# Altium schematic symbol library HK_SCHLIB.SchLib: 347 symbols (part 1 of 8)
Pins are listed as number, name and electrical type; pins without a type are passive.

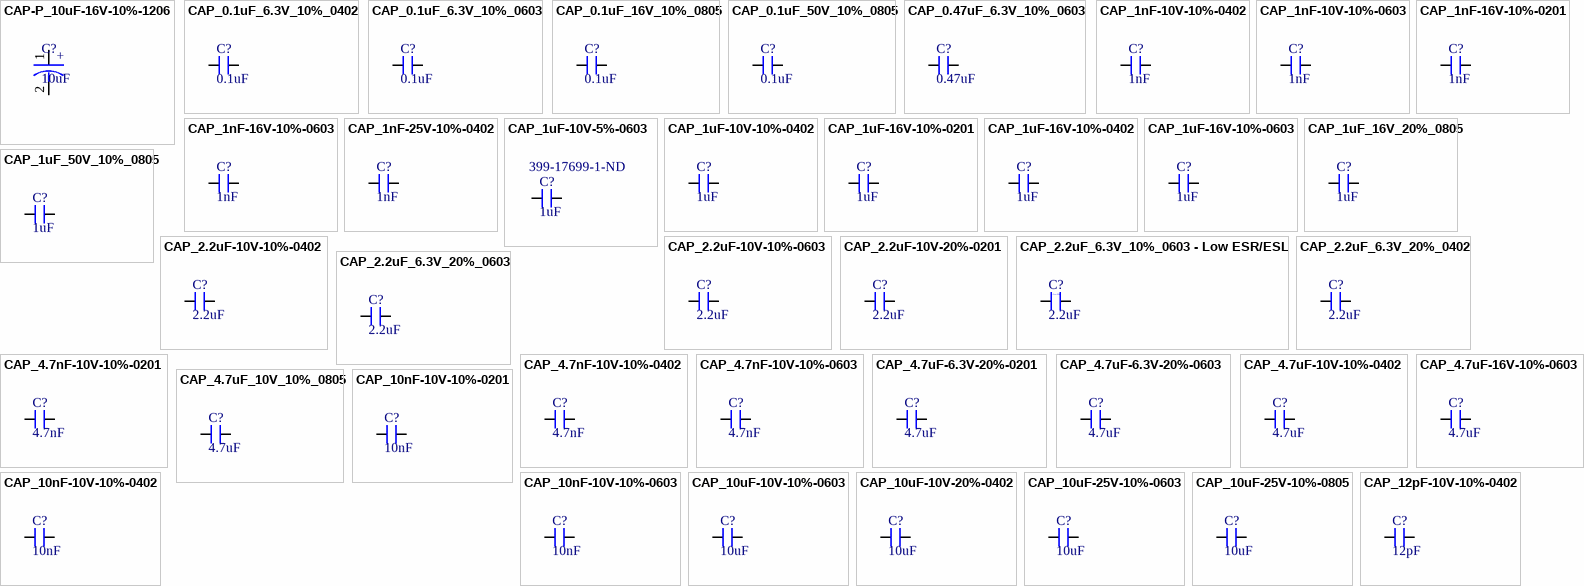
[diagram p0: symbols CAP-P_10uF-16V-10%-1206 to CAP_12pF-10V-10%-0402]

## CAP-P_10uF-16V-10%-1206
designator C?, comment 10uF
Cap Tant Solid 10uF 16V A CASE 10% (3.2 X 1.6 X 1.6mm) SMD 3216-18 3 Ohm 125°C T/R; Manufacturer: AVX Corporation; Manufacturer Part Number: TAJA106K016SNJ; Alternate Part Number-1: CA45-A016K106T; Manufacturer 1: Kyocera AVX; Case/Package: 1206; Supplier-1: SIRICOM; Supplier Part Number-1: TAJA106K016SNJ; Category: Capacitor; Number of Pins: 2; Supplier 1: Digi-Key; Manufacturer Part Number 1: TAJA106K016SNJ; RoHS: Yes; Stock 1: 117743; Pricing 1: 1=0.35, 10=0.246, 50=0.1726, 100=0.1479, 500=0.1109, 1000=0.09365, 2500=0.08872 (USD); ComponentLink1URL: https://datasheet.ciiva.com/29500/taj-29500092.pdf?src-supplier=Digi-Key; ComponentLink1Description: https://datasheet.ciiva.com/29500/taj-29500092.pdf?src-supplier=Digi-Key; ComponentLink2URL: https://datasheet.ciiva.com/29500/taj-29500093.pdf?src-supplier=Digi-Key; ComponentLink2Description: https://datasheet.ciiva.com/29500/taj-29500093.pdf?src-supplier=Digi-Key; ComponentLink3URL: https://datasheet.ciiva.com/29500/taj-29500094.pdf?src-supplier=Digi-Key; ComponentLink3Description: https://datasheet.ciiva.com/29500/taj-29500094.pdf?src-supplier=Digi-Key; ComponentLink4URL: https://datasheet.ciiva.com/12907/taj-27497-12907453.pdf?src-supplier=Mouser; ComponentLink4Description: https://datasheet.ciiva.com/12907/taj-27497-12907453.pdf?src-supplier=Mouser
footprint CAP-T_1206 (Footprint not found)
pins: 1, 2
text: +

## CAP_0.1uF_6.3V_10%_0402
designator C?, comment 0.1uF
Multilayer Ceramic Capacitor, 0.1 uF, 6.3 V, ± 10%, X5R, 0402 [1005 Metric]; Manufacturer 1: KEMET; Manufacturer Part Number 1: C0402C104K9PACTU; Capacitance: 100nF; Voltage Rating (DC): 6.3V; Dissipation Factor: 5%; ComponentLink1URL: http://www.jameco.com/Jameco/Products/ProdDS/1564300.pdf?src-supplier=Jameco; ComponentLink1Description: http://www.jameco.com/Jameco/Products/ProdDS/1564300.pdf?src-supplier=Jameco; ComponentLink2URL: http://components.arrow.com/part/dataview/20550741S6158455N7429?src-supplier=Arrow+Electronics; ComponentLink2Description: http://components.arrow.com/part/dataview/20550741S6158455N7429?src-supplier=Arrow+Electronics; ComponentLink3URL: http://www.farnell.com/datasheets/2740633.pdf?src-supplier=Farnell; ComponentLink3Description: http://www.farnell.com/datasheets/2740633.pdf?src-supplier=Farnell; ComponentLink4URL: http://uk.rs-online.com/webdocs/1443/0900766b81443d87.pdf?src-supplier=Rs; ComponentLink4Description: http://uk.rs-online.com/webdocs/1443/0900766b81443d87.pdf?src-supplier=Rs; ComponentLink5URL: http://uk.rs-online.com/webdocs/1443/0900766b81443d88.pdf?src-supplier=Rs; ComponentLink5Description: http://uk.rs-online.com/webdocs/1443/0900766b81443d88.pdf?src-supplier=Rs; ComponentLink6URL: http://datasheet.octopart.com/C0402C104K9PACTU-KEMET-datasheet-153476653.pdf?src-supplier=Avnet; ComponentLink6Description: http://datasheet.octopart.com/C0402C104K9PACTU-KEMET-datasheet-153476653.pdf?src-supplier=Avnet; ComponentLink7URL: http://capacitoredge.kemet.com/capedge2/DataSheet?pn=C0402C104K9PAC7867&src-supplier=Avnet; ComponentLink7Description: http://capacitoredge.kemet.com/capedge2/DataSheet?pn=C0402C104K9PAC7867&src-supplier=Avnet; ComponentLink8URL: http://datasheet.octopart.com/C0402C104K9PACTU-KEMET-datasheet-153476653.pdf?src-supplier=Rs; ComponentLink8Description: http://datasheet.octopart.com/C0402C104K9PACTU-KEMET-datasheet-153476653.pdf?src-supplier=Rs; ComponentLink9URL: http://datasheet.octopart.com/C0402C104K9PACTU-KEMET-datasheet-153476653.pdf?src-supplier=Mouser; ComponentLink9Description: http://datasheet.octopart.com/C0402C104K9PACTU-KEMET-datasheet-153476653.pdf?src-supplier=Mouser; ComponentLink10URL: http://datasheet.octopart.com/C0402C104K9PACTU-KEMET-datasheet-153476653.pdf?src-supplier=Allied+Electronics; ComponentLink10Description: http://datasheet.octopart.com/C0402C104K9PACTU-KEMET-datasheet-153476653.pdf?src-supplier=Allied+Electronics; ComponentLink11URL: https://datasheet.octopart.com/C0402C104K9PACTU-Kemet-datasheet-27203266.pdf?src-supplier=Newark; ComponentLink11Description: https://datasheet.octopart.com/C0402C104K9PACTU-Kemet-datasheet-27203266.pdf?src-supplier=Newark; ComponentLink12URL: http://www.farnell.com/datasheets/2740633.pdf?src-supplier=Newark; ComponentLink12Description: http://www.farnell.com/datasheets/2740633.pdf?src-supplier=Newark; ComponentLink13URL: http://datasheet.octopart.com/C0402C104K9PACTU-KEMET-datasheet-153476653.pdf?src-supplier=Digi-Key; ComponentLink13Description: http://datasheet.octopart.com/C0402C104K9PACTU-KEMET-datasheet-153476653.pdf?src-supplier=Digi-Key; ComponentLink14URL: http://datasheet.octopart.com/C0402C104K9PACTU-KEMET-datasheet-153476653.pdf?src-supplier=Onlinecomponents.com; ComponentLink14Description: http://datasheet.octopart.com/C0402C104K9PACTU-KEMET-datasheet-153476653.pdf?src-supplier=Onlinecomponents.com; ComponentLink15URL: https://api.kemet.com/component-edge/download/datasheet/C0402C104K9PACTU.pdf?src-supplier=Digi-Key; ComponentLink15Description: https://api.kemet.com/component-edge/download/datasheet/C0402C104K9PACTU.pdf?src-supplier=Digi-Key; ComponentLink16URL: http://www.farnell.com/datasheets/1791935.pdf?src-supplier=Element14; ComponentLink16Description: http://www.farnell.com/datasheets/1791935.pdf?src-supplier=Element14; ComponentLink17URL: http://www.farnell.com/datasheets/2740633.pdf?src-supplier=Element14; ComponentLink17Description: http://www.farnell.com/datasheets/2740633.pdf?src-supplier=Element14; ComponentLink18URL: http://www.kemet.com/kemet/web/homepage/kechome.nsf/vapubfiles/KEM_C1006_X5R_SMD.pdf/$file/KEM_C1006_X5R_SMD.pdf?src-supplier=Element14; ComponentLink18Description: http://www.kemet.com/kemet/web/homepage/kechome.nsf/vapubfiles/KEM_C1006_X5R_SMD.pdf/$file/KEM_C1006_X5R_SMD.pdf?src-supplier=Element14; ComponentLink19URL: http://www.kemet.com/kemet/web/homepage/kechome.nsf/vapubfiles/KEM_C1006_X5R_SMD.pdf/$file/KEM_C1006_X5R_SMD.pdf?src-supplier=Farnell; ComponentLink19Description: http://www.kemet.com/kemet/web/homepage/kechome.nsf/vapubfiles/KEM_C1006_X5R_SMD.pdf/$file/KEM_C1006_X5R_SMD.pdf?src-supplier=Farnell; ComponentLink20URL: http://datasheet.octopart.com/C0402C104K9PACTU-KEMET-datasheet-153476653.pdf?src-supplier=Verical; ComponentLink20Description: http://datasheet.octopart.com/C0402C104K9PACTU-KEMET-datasheet-153476653.pdf?src-supplier=Verical; Supplier 1: Digi-Key; RoHS: Yes; Category: Ceramic Capacitors; Stock 1: 513561; Pricing 1: 1=0.1, 10=0.038, 50=0.0208, 100=0.0169, 500=0.0121, 1000=0.0095, 2500=0.00864, 5000=0.00795 (USD); Mount: Surface Mount,PCB; Case/Package: 0402; Dielectric Material: Ceramic; Case Code (Imperial): 0402; Case Code (Metric): 1005; Min Operating Temperature: -55°C; Max Operating Temperature: 85°C; Tolerance: 10%; Packaging: Tape and Reel; Dielectric: X5R; Package Quantity: 10000; Series: C0402C; Voltage Rating: 6.3V; Termination: SMD/SMT; Construction: Flat; Voltage: 6.3V; Length: 1mm; Width: 0.5mm; Height: 0.5mm; Depth: 0.5mm; Lead Pitch: 0.3mm; Radiation Hardening: No; Lead Free: Lead Free; Reach SVHC Compliant: No; RoHS Compliant: Yes; Supplier Part Number 1: 399-C0402C104K9PAC7867DKR-ND
footprint CAP_0402 (Chip Capacitor 0402, 2-Leads, Body, IPC Medium Density)
pins: 1, 2

## CAP_0.1uF_6.3V_10%_0603
designator C?, comment 0.1uF
Multilayer Ceramic Capacitor, 0.1 uF, 6.3 V, ± 10%, X7R, 0603 [1608 Metric]; Manufacturer: KEMET; Manufacturer Part Number: C0603C104K9RACTU; Capacitance: 100nF; Voltage Rating: 6.3V; Dissipation Factor: 5%; Supplier 1: Mouser; RoHS: Yes; Category: Ceramic Capacitors; Stock 1: 222945; Pricing 1: 1=0.1, 10=0.086, 50=0.086, 100=0.044, 1000=0.027, 10000=0.021 (USD); Mount: Surface Mount; Case/Package: 0603; Case Code (Imperial): 0603; Case Code (Metric): 1608; Dielectric Material: Ceramic; Min Operating Temperature: -55°C; Max Operating Temperature: 125°C; Tolerance: 10%; Dielectric: X7R; Package Quantity: 4000; Packaging: Tape and Reel; Voltage Rating (DC): 6.3V; Termination: SMD/SMT; Series: C; Construction: Flat; Length: 1.6mm; Width: 0.8mm; Height: 0.8mm; Thickness: 0.034inch; Depth: 0.8mm; Radiation Hardening: No; RoHS Compliant: Yes; ComponentLink1URL: https://datasheet.ciiva.com/13371/kem-c1002-x7r-smd-357932-13371879.pdf?src-supplier=Mouser; ComponentLink1Description: https://datasheet.ciiva.com/13371/kem-c1002-x7r-smd-357932-13371879.pdf?src-supplier=Mouser; Supplier 2: Digi-Key; Manufacturer 2: KEMET; Manufacturer Part Number 2: C0603C104K9RACTU; Stock 2: 54491; Pricing 2: 1=0.13, 10=0.096, 50=0.0544, 100=0.0451, 500=0.03162, 1000=0.02618 (USD); Supplier 3: Mouser; Manufacturer 3: KEMET; Manufacturer Part Number 3: C0603C104K9RACTU; Stock 3: 222663; Pricing 3: 1=0.13, 10=0.055, 50=0.055, 100=0.032, 1000=0.027, 10000=0.02 (USD); Supplier Part Number 3: 80-C0603C104K9R
footprint CAP_0603 (Chip Capacitor 0603, 2-Leads, Body 1.68x0.88mm, IPC Medium Density)
pins: 1, 2

## CAP_0.1uF_16V_10%_0805
designator C?, comment 0.1uF
Multilayer Ceramic Capacitor, 0.1 uF, 16 V, ± 10%, X7R, 0805 [2012 Metric]; Manufacturer: KEMET; Manufacturer Part Number: C0805C104K4RACTU; Capacitance: 100nF; Voltage Rating: 16V; Supplier 1: Mouser; RoHS: Yes; Category: Ceramic Capacitors; Stock 1: 90803; Pricing 1: 1=0.15, 10=0.078, 50=0.078, 100=0.044, 1000=0.03, 10000=0.023 (USD); Mount: Surface Mount,PCB; Case/Package: 0805; Number of Pins: 2; Case Code (Imperial): 0805; Case Code (Metric): 2012; Contact Plating: Tin,Matte; Dielectric Material: Ceramic; Min Operating Temperature: -55°C; Max Operating Temperature: 125°C; Packaging: Tape and Reel; Package Quantity: 4000; Tolerance: 10%; Voltage Rating (DC): 16V; Dielectric: X7R; Termination: SMD/SMT; Voltage: 16V; Series: SMD Comm X7R; Construction: Flat; Length: 2mm; Height: 0.9mm; Lead Pitch: 0.75mm; Depth: 1.25mm; Radiation Hardening: No; Reach SVHC Compliant: No; RoHS Compliant: Yes; ComponentLink1URL: https://datasheet.ciiva.com/46443/1851736-46443711.pdf?src-supplier=Element14; ComponentLink1Description: https://datasheet.ciiva.com/46443/1851736-46443711.pdf?src-supplier=Element14; ComponentLink2URL: https://datasheet.ciiva.com/46443/1851736-46443710.pdf?src-supplier=Element14; ComponentLink2Description: https://datasheet.ciiva.com/46443/1851736-46443710.pdf?src-supplier=Element14; Supplier 2: Digi-Key; Manufacturer 2: KEMET; Manufacturer Part Number 2: C0805C104K4RACTU; Stock 2: 179111; Pricing 2: 1=0.18, 10=0.13, 50=0.0736, 100=0.061, 500=0.04274, 1000=0.03539 (USD); Supplier 3: Mouser; Manufacturer 3: KEMET; Manufacturer Part Number 3: C0805C104K4RACTU; Stock 3: 60653; Pricing 3: 1=0.17, 10=0.078, 50=0.078, 100=0.045, 1000=0.032, 10000=0.023 (USD); Supplier Part Number 3: 80-C0805C104K4R
footprint CAP_0805 (Chip Capacitor, 2-Leads, Body 2.10x1.35mm, IPC Medium Density)
pins: 1, 2

## CAP_0.1uF_50V_10%_0805
designator C?, comment 0.1uF
SMD Comm X7R 0805 (2012Metric) Ceramic Capacitor 0.079Lx0.049W 2.00mmx1.25mm X7R ±10% 0.1muF; Manufacturer: KEMET; Manufacturer Part Number: C0805C104K5RAC7210; Capacitance: 100nF; Voltage Rating: 50V; Supplier 1: Mouser; RoHS: Yes; Category: Ceramic Capacitors; Stock 1: 173866; Pricing 1: 1=0.13, 10=0.055, 50=0.055, 100=0.032, 1000=0.024, 10000=0.024 (USD); Mount: Surface Mount; Case/Package: 0805; Case Code (Metric): 2012; Case Code (Imperial): 0805; Dielectric Material: Ceramic; Min Operating Temperature: -55°C; Max Operating Temperature: 125°C; Tolerance: 10%; Dielectric: X7R; Packaging: Tape and Reel; Package Quantity: 15000; Voltage Rating (DC): 50V; Termination: SMD/SMT; Series: C; Construction: Flat; Length: 2mm; Width: 0.049inch; Height: 0.9mm; Depth: 1.25mm; Lead Pitch: 0.75mm; Thickness: 0.035inch; Radiation Hardening: No; RoHS Compliant: Yes; ComponentLink1URL: http://www.farnell.com/datasheets/2750461.pdf?src-supplier=Farnell; ComponentLink1Description: http://www.farnell.com/datasheets/2750461.pdf?src-supplier=Farnell; ComponentLink2URL: http://www.mouser.com/ds/2/212/KEM_C1002_X7R_SMD-1102033.pdf?src-supplier=Mouser; ComponentLink2Description: http://www.mouser.com/ds/2/212/KEM_C1002_X7R_SMD-1102033.pdf?src-supplier=Mouser; ComponentLink3URL: http://components.arrow.com/part/dataview/1379060S8109168N7429?src-supplier=Arrow+Electronics; ComponentLink3Description: http://components.arrow.com/part/dataview/1379060S8109168N7429?src-supplier=Arrow+Electronics; ComponentLink4URL: http://capacitoredge.kemet.com/capedge2/DataSheet/Datasheet-C0805C104K5RAC7210.pdf?pn=C0805C104K5RAC7210&src-supplier=Avnet; ComponentLink4Description: http://capacitoredge.kemet.com/capedge2/DataSheet/Datasheet-C0805C104K5RAC7210.pdf?pn=C0805C104K5RAC7210&src-supplier=Avnet; ComponentLink5URL: http://www.farnell.com/datasheets/2750461.pdf?src-supplier=Newark; ComponentLink5Description: http://www.farnell.com/datasheets/2750461.pdf?src-supplier=Newark; ComponentLink6URL: http://www.farnell.com/datasheets/2750461.pdf?src-supplier=Element14; ComponentLink6Description: http://www.farnell.com/datasheets/2750461.pdf?src-supplier=Element14; ComponentLink7URL: https://api.kemet.com/component-edge/download/datasheet/C0805C104K5RAC7210.pdf?src-supplier=Digi-Key; ComponentLink7Description: https://api.kemet.com/component-edge/download/datasheet/C0805C104K5RAC7210.pdf?src-supplier=Digi-Key; ComponentLink8URL: https://www.verical.com/server-webapp/html/getDatasheet?partID=114317&src-supplier=Verical; ComponentLink8Description: https://www.verical.com/server-webapp/html/getDatasheet?partID=114317&src-supplier=Verical; ComponentLink9URL: http://www.kemet.com/kemet/web/homepage/kechome.nsf/weben/C4DA2DA1D1C9D3C3CA2570A50016092D/$file/KEM_C1002_X7R_SMD.pdf; ComponentLink9Description: http://www.kemet.com/kemet/web/homepage/kechome.nsf/weben/C4DA2DA1D1C9D3C3CA2570A50016092D/$file/KEM_C1002_X7R_SMD.pdf; ComponentLink10URL: https://datasheet.octopart.com/C0805C104K5RAC7210-KEMET-datasheet-130259742.pdf?src-supplier=TME; ComponentLink10Description: https://datasheet.octopart.com/C0805C104K5RAC7210-KEMET-datasheet-130259742.pdf?src-supplier=TME; ComponentLink11URL: https://datasheet.octopart.com/C0805C104K5RAC7210-KEMET-datasheet-37550250.pdf?src-supplier=Electro+Sonic; ComponentLink11Description: https://datasheet.octopart.com/C0805C104K5RAC7210-KEMET-datasheet-37550250.pdf?src-supplier=Electro+Sonic; Supplier 2: Digi-Key; Manufacturer 2: KEMET; Manufacturer Part Number 2: C0805C104K5RAC7210; Stock 2: 1684433; Pricing 2: 1=0.13, 10=0.092, 50=0.052, 100=0.0431, 500=0.03022, 1000=0.02502, 2500=0.02328, 5000=0.0213 (USD); Supplier 3: Mouser; Manufacturer 3: KEMET; Manufacturer Part Number 3: C0805C104K5RAC7210; Stock 3: 170881; Pricing 3: 1=0.13, 10=0.055, 50=0.055, 100=0.032, 1000=0.024, 10000=0.018 (USD); Supplier Part Number 3: 80-C0805C104K5R7210
footprint CAP_0805 (Chip Capacitor, 2-Leads, Body 2.10x1.35mm, IPC Medium Density)
pins: 1, 2

## CAP_0.47uF_6.3V_10%_0603
designator C?, comment 0.47uF
Multilayer Ceramic Capacitor, 0.47 uF, 6.3 V, ± 10%, X5R, 0603 [1608 Metric]; Manufacturer: KEMET; Manufacturer Part Number: C0603C474K9PACTU; Capacitance: 470nF; Voltage Rating: 6.3V; Dissipation Factor: 5%; Supplier 1: Mouser; RoHS: Yes; Category: Ceramic Capacitors; Stock 1: 21236; Pricing 1: 1=0.16, 10=0.094, 50=0.094, 100=0.055, 1000=0.034, 10000=0.022 (USD); Mount: Surface Mount; Case/Package: 0603; Case Code (Imperial): 0603; Case Code (Metric): 1608; Dielectric Material: Ceramic; Min Operating Temperature: -55°C; Max Operating Temperature: 85°C; Tolerance: 10%; Dielectric: X5R; Package Quantity: 1; Packaging: Tape and Reel; Voltage Rating (DC): 6.3V; Termination: SMD/SMT; Series: C; Construction: Flat; Length: 1.6mm; Width: 0.031inch; Height: 0.8mm; Lead Pitch: 0.7mm; Thickness: 0.034inch; Depth: 0.8mm; Lead Free: Lead Free; RoHS Compliant: Yes; ComponentLink1URL: http://www.farnell.com/datasheets/2748219.pdf?src-supplier=Farnell; ComponentLink1Description: http://www.farnell.com/datasheets/2748219.pdf?src-supplier=Farnell; ComponentLink2URL: http://www.mouser.com/ds/2/212/KEM_C1006_X5R_SMD-1103249.pdf?src-supplier=Mouser; ComponentLink2Description: http://www.mouser.com/ds/2/212/KEM_C1006_X5R_SMD-1103249.pdf?src-supplier=Mouser; ComponentLink3URL: http://components.arrow.com/part/dataview/40911673S6836922N7429?src-supplier=Arrow+Electronics; ComponentLink3Description: http://components.arrow.com/part/dataview/40911673S6836922N7429?src-supplier=Arrow+Electronics; ComponentLink4URL: http://www.farnell.com/datasheets/2748219.pdf?src-supplier=Newark; ComponentLink4Description: http://www.farnell.com/datasheets/2748219.pdf?src-supplier=Newark; ComponentLink5URL: https://datasheet.octopart.com/C0603C474K9PACTU-KEMET-datasheet-83561846.pdf?src-supplier=Newark; ComponentLink5Description: https://datasheet.octopart.com/C0603C474K9PACTU-KEMET-datasheet-83561846.pdf?src-supplier=Newark; ComponentLink6URL: https://api.kemet.com/component-edge/download/datasheet/C0603C474K9PACTU.pdf?src-supplier=Digi-Key; ComponentLink6Description: https://api.kemet.com/component-edge/download/datasheet/C0603C474K9PACTU.pdf?src-supplier=Digi-Key; ComponentLink7URL: https://datasheet.octopart.com/C0603C474K9PACTU-Kemet-datasheet-62307647.pdf?src-supplier=Element14; ComponentLink7Description: https://datasheet.octopart.com/C0603C474K9PACTU-Kemet-datasheet-62307647.pdf?src-supplier=Element14; ComponentLink8URL: https://datasheet.octopart.com/C0603C474K9PACTU-KEMET-datasheet-149522163.pdf?src-supplier=Farnell; ComponentLink8Description: https://datasheet.octopart.com/C0603C474K9PACTU-KEMET-datasheet-149522163.pdf?src-supplier=Farnell; ComponentLink9URL: https://datasheet.octopart.com/C0603C474K9PACTU-KEMET-datasheet-153476653.pdf?src-supplier=Electro+Sonic; ComponentLink9Description: https://datasheet.octopart.com/C0603C474K9PACTU-KEMET-datasheet-153476653.pdf?src-supplier=Electro+Sonic; Supplier 2: Mouser; Stock 2: 43893; Pricing 2: 1=0.15, 10=0.088, 50=0.088, 100=0.057, 1000=0.057, 10000=0.046 (USD); Radiation Hardening: No; Reach SVHC Compliant: No; ComponentLink10URL: http://components.arrow.com/part/dataview/42933002S8993962N7429?src-supplier=Arrow+Electronics; ComponentLink10Description: http://components.arrow.com/part/dataview/42933002S8993962N7429?src-supplier=Arrow+Electronics; ComponentLink11URL: http://www.farnell.com/datasheets/2746647.pdf?src-supplier=Farnell; ComponentLink11Description: http://www.farnell.com/datasheets/2746647.pdf?src-supplier=Farnell; ComponentLink12URL: http://datasheet.octopart.com/C0603C475M9PACTU-KEMET-datasheet-153476653.pdf?src-supplier=Avnet; ComponentLink12Description: http://datasheet.octopart.com/C0603C475M9PACTU-KEMET-datasheet-153476653.pdf?src-supplier=Avnet; ComponentLink13URL: http://datasheet.octopart.com/C0603C475M9PACTU-KEMET-datasheet-153476653.pdf?src-supplier=Onlinecomponents.com; ComponentLink13Description: http://datasheet.octopart.com/C0603C475M9PACTU-KEMET-datasheet-153476653.pdf?src-supplier=Onlinecomponents.com; ComponentLink14URL: https://datasheet.octopart.com/C0603C475M9PACTU-Kemet-datasheet-17019119.pdf?src-supplier=Newark; ComponentLink14Description: https://datasheet.octopart.com/C0603C475M9PACTU-Kemet-datasheet-17019119.pdf?src-supplier=Newark; ComponentLink15URL: http://datasheet.octopart.com/C0603C475M9PACTU-KEMET-datasheet-153476653.pdf?src-supplier=Digi-Key; ComponentLink15Description: http://datasheet.octopart.com/C0603C475M9PACTU-KEMET-datasheet-153476653.pdf?src-supplier=Digi-Key; ComponentLink16URL: https://api.kemet.com/component-edge/download/datasheet/C0603C475M9PACTU.pdf?src-supplier=Digi-Key; ComponentLink16Description: https://api.kemet.com/component-edge/download/datasheet/C0603C475M9PACTU.pdf?src-supplier=Digi-Key; ComponentLink17URL: http://www.farnell.com/datasheets/2746647.pdf?src-supplier=Newark; ComponentLink17Description: http://www.farnell.com/datasheets/2746647.pdf?src-supplier=Newark; ComponentLink18URL: https://datasheet.octopart.com/C0603C475M9PACTU-Kemet-datasheet-62307650.pdf?src-supplier=Element14; ComponentLink18Description: https://datasheet.octopart.com/C0603C475M9PACTU-Kemet-datasheet-62307650.pdf?src-supplier=Element14; ComponentLink19URL: https://datasheet.octopart.com/C0603C475M9PACTU-KEMET-datasheet-149522171.pdf?src-supplier=Farnell; ComponentLink19Description: https://datasheet.octopart.com/C0603C475M9PACTU-KEMET-datasheet-149522171.pdf?src-supplier=Farnell; ComponentLink20URL: http://www.farnell.com/datasheets/1791935.pdf?src-supplier=Newark; ComponentLink20Description: http://www.farnell.com/datasheets/1791935.pdf?src-supplier=Newark; ComponentLink21URL: http://datasheet.octopart.com/C0603C475M9PACTU-KEMET-datasheet-153476653.pdf?src-supplier=Quest; ComponentLink21Description: http://datasheet.octopart.com/C0603C475M9PACTU-KEMET-datasheet-153476653.pdf?src-supplier=Quest; ComponentLink22URL: https://datasheet.octopart.com/C0603C475M9PACTU-KEMET-datasheet-153476653.pdf?src-supplier=Electro+Sonic; ComponentLink22Description: https://datasheet.octopart.com/C0603C475M9PACTU-KEMET-datasheet-153476653.pdf?src-supplier=Electro+Sonic; Supplier 3: Mouser; Stock 3: 21236; Pricing 3: 1=0.16, 10=0.094, 50=0.094, 100=0.055, 1000=0.034, 10000=0.022 (USD); Supplier 4: Digi-Key; Manufacturer 4: KEMET; Manufacturer Part Number 4: C0603C474K9PACTU; Stock 4: 64517; Pricing 4: 1=0.13, 10=0.094, 50=0.0534, 100=0.0443, 500=0.03104, 1000=0.02569 (USD); Supplier 5: Mouser; Manufacturer 5: KEMET; Manufacturer Part Number 5: C0603C474K9PACTU; Stock 5: 21036; Pricing 5: 1=0.14, 10=0.057, 50=0.057, 100=0.033, 1000=0.027, 10000=0.021 (USD); Supplier Part Number 5: 80-C0603C474K9P
footprint CAP_0603 (Chip Capacitor 0603, 2-Leads, Body 1.68x0.88mm, IPC Medium Density)
pins: 1, 2

## CAP_1nF-10V-10%-0402
designator C?, comment 1nF
Multilayer Ceramic Capacitor, 1000 pF, 10 V, ± 10%, X7R, 0402 [1005 Metric]; Manufacturer: KEMET; Manufacturer Part Number: C0402C102K8RACTU; Voltage Rating: 10V; Dissipation Factor: 5%; Case/Package: 0402; Supplier-1: Digikey; Supplier 1: Digi-Key; Manufacturer 1: KEMET; Manufacturer Part Number 1: C0402C102K8RACTU; RoHS: Yes; Category: Ceramic Capacitors; Stock 1: 209937; Pricing 1: 1=0.1, 10=0.019, 50=0.0104, 100=0.0085, 500=0.00604, 1000=0.00475, 2500=0.00432, 5000=0.00397 (USD); Mount: Surface Mount; Case Code (Imperial): 0402; Case Code (Metric): 1005; Dielectric Material: Ceramic; Min Operating Temperature: -55°C; Max Operating Temperature: 125°C; Capacitance: 1nF; Tolerance: 10%; Packaging: Tape and Reel; Package Quantity: 1; Voltage Rating (DC): 10V; Dielectric: X7R; Termination: SMD/SMT; Series: C; Construction: Flat; Length: 1mm; Width: 0.02inch; Height: 0.5mm; Lead Pitch: 0.3mm; Thickness: 0.022inch; Depth: 0.5mm; Reach SVHC Compliant: No; RoHS Compliant: Yes; ComponentLink1URL: http://www.farnell.com/datasheets/2746032.pdf?src-supplier=Farnell; ComponentLink1Description: http://www.farnell.com/datasheets/2746032.pdf?src-supplier=Farnell; ComponentLink2URL: http://components.arrow.com/part/dataview/2084806S6036613N7429?src-supplier=Arrow+Electronics; ComponentLink2Description: http://components.arrow.com/part/dataview/2084806S6036613N7429?src-supplier=Arrow+Electronics; ComponentLink3URL: http://www.mouser.com/ds/2/212/KEM_C1002_X7R_SMD-1102033.pdf?src-supplier=Mouser; ComponentLink3Description: http://www.mouser.com/ds/2/212/KEM_C1002_X7R_SMD-1102033.pdf?src-supplier=Mouser; ComponentLink4URL: http://capacitoredge.kemet.com/capedge2/DataSheet?pn=C0402C102K8RAC7867&src-supplier=Avnet; ComponentLink4Description: http://capacitoredge.kemet.com/capedge2/DataSheet?pn=C0402C102K8RAC7867&src-supplier=Avnet; ComponentLink5URL: http://www.farnell.com/datasheets/2314914.pdf?src-supplier=Newark; ComponentLink5Description: http://www.farnell.com/datasheets/2314914.pdf?src-supplier=Newark; ComponentLink6URL: https://datasheet.octopart.com/C0402C102K8RACTU-KEMET-datasheet-74831184.pdf?src-supplier=Newark; ComponentLink6Description: https://datasheet.octopart.com/C0402C102K8RACTU-KEMET-datasheet-74831184.pdf?src-supplier=Newark; ComponentLink7URL: https://api.kemet.com/component-edge/download/datasheet/C0402C102K8RACTU.pdf?src-supplier=Digi-Key; ComponentLink7Description: https://api.kemet.com/component-edge/download/datasheet/C0402C102K8RACTU.pdf?src-supplier=Digi-Key; ComponentLink8URL: https://datasheet.octopart.com/C0402C102K8RACTU-Kemet-datasheet-65850000.pdf?src-supplier=Element14; ComponentLink8Description: https://datasheet.octopart.com/C0402C102K8RACTU-Kemet-datasheet-65850000.pdf?src-supplier=Element14; ComponentLink9URL: https://datasheet.octopart.com/C0402C102K8RACTU-KEMET-datasheet-149521594.pdf?src-supplier=Farnell; ComponentLink9Description: https://datasheet.octopart.com/C0402C102K8RACTU-KEMET-datasheet-149521594.pdf?src-supplier=Farnell; ComponentLink10URL: http://www.farnell.com/datasheets/2746032.pdf?src-supplier=Element14; ComponentLink10Description: http://www.farnell.com/datasheets/2746032.pdf?src-supplier=Element14; ComponentLink11URL: http://www.farnell.com/datasheets/2746032.pdf?src-supplier=Newark; ComponentLink11Description: http://www.farnell.com/datasheets/2746032.pdf?src-supplier=Newark; ComponentLink12URL: https://datasheet.octopart.com/C0402C102K8RACTU-KEMET-datasheet-138697071.pdf?src-supplier=TME; ComponentLink12Description: https://datasheet.octopart.com/C0402C102K8RACTU-KEMET-datasheet-138697071.pdf?src-supplier=TME; ComponentLink13URL: https://datasheet.octopart.com/C0402C102K8RACTU-KEMET-datasheet-157246124.pdf?src-supplier=Electro+Sonic; ComponentLink13Description: https://datasheet.octopart.com/C0402C102K8RACTU-KEMET-datasheet-157246124.pdf?src-supplier=Electro+Sonic
footprint CAP_0402 (Capacitor)
pins: 1, 2

## CAP_1nF-10V-10%-0603
designator C?, comment 1nF
Cap Ceramic 0.001uF 10V X7R 10% SMD 0603 125°C Paper T/R; Manufacturer: Yageo; Manufacturer Part Number: CC0603KRX7R6BB102; Case/Package: 0603; Supplier-1: Digikey; Supplier 1: Digi-Key; Manufacturer 1: Yageo; Manufacturer Part Number 1: CC0603KRX7R6BB102; RoHS: Yes; Category: Ceramic Capacitors; Stock 1: 20692; Pricing 1: 1=0.1, 10=0.048, 50=0.0262, 100=0.0214, 500=0.01528, 1000=0.012 (USD); Mount: Surface Mount; Case Code (Imperial): 0603; Case Code (Metric): 1608; Min Operating Temperature: -55°C; Max Operating Temperature: 125°C; Capacitance: 1nF; Tolerance: 10%; Termination: Wraparound; Voltage Rating (DC): 10V; Packaging: Tape and Reel; Dielectric: X7R; Voltage Rating: 10V; Series: CC; Construction: Flat; Length: 0.063inch; Width: 0.031inch; Height: 0.8mm; Thickness: 0.035inch; Lead Free: Lead Free; Halogen Free: Halogen Free; RoHS Compliant: Yes; ComponentLink1URL: https://datasheet.ciiva.com/13210/upy-gphc-x7r-6-3v-to-50v-8-12304-13210264.pdf?src-supplier=Mouser; ComponentLink1Description: https://datasheet.ciiva.com/13210/upy-gphc-x7r-6-3v-to-50v-8-12304-13210264.pdf?src-supplier=Mouser
footprint CAP_0603 (Capacitor)
pins: 1, 2

## CAP_1nF-16V-10%-0201
designator C?, comment 1nF
Multilayer Ceramic Capacitor, 1000 pF, 16 V, ± 10%, X7R, 0201 [0603 Metric]; Manufacturer: Murata Electronics; Manufacturer Part Number: GRM033R71C102KA01D; Manufacturer 1: Murata; Case/Package: 0201; Supplier-1: Digikey; Supplier 1: Digi-Key; Manufacturer Part Number 1: GRM033R71C102KA01D; RoHS: Yes; Category: Ceramic Capacitors; Stock 1: 1811602; Pricing 1: 1=0.1, 10=0.014, 50=0.0076, 100=0.0062, 500=0.00446, 1000=0.0035, 2500=0.00318, 5000=0.00293 (USD); ComponentLink1URL: https://datasheet.ciiva.com/18184/getdatasheetpartid-457849-18184082.pdf?src-supplier=Verical; ComponentLink1Description: https://datasheet.ciiva.com/18184/getdatasheetpartid-457849-18184082.pdf?src-supplier=Verical; ComponentLink2URL: https://datasheet.ciiva.com/5424/product-5424017.pdf?src-supplier=Mouser; ComponentLink2Description: https://datasheet.ciiva.com/5424/product-5424017.pdf?src-supplier=Mouser; ComponentLink3URL: https://datasheet.ciiva.com/6263/partnumbering-e-01-6263577.pdf?src-supplier=Digi-Key; ComponentLink3Description: https://datasheet.ciiva.com/6263/partnumbering-e-01-6263577.pdf?src-supplier=Digi-Key; ComponentLink4URL: https://datasheet.ciiva.com/6263/partnumbering-e-01-6263578.pdf?src-supplier=Digi-Key; ComponentLink4Description: https://datasheet.ciiva.com/6263/partnumbering-e-01-6263578.pdf?src-supplier=Digi-Key; ComponentLink5URL: https://datasheet.ciiva.com/6263/partnumbering-e-01-6263661.pdf?src-supplier=Digi-Key; ComponentLink5Description: https://datasheet.ciiva.com/6263/partnumbering-e-01-6263661.pdf?src-supplier=Digi-Key
footprint CAP_0201
pins: 1, 2

## CAP_1nF-16V-10%-0603
designator C?, comment 1nF
1000pF ±10% 16V Ceramic Capacitor X7R 0603 (1608 Metric) /; Manufacturer: KEMET; Manufacturer Part Number: C0603C102K4RECAUTO; Case/Package: 0603; Supplier-1: Digikey
footprint CAP_0603 (Capacitor)
pins: 1, 2

## CAP_1nF-25V-10%-0402
designator C?, comment 1nF
Multilayer Ceramic Capacitor, 0.001 uF, 25 V, ± 10%, X7R, 0402 [1005 Metric]; Manufacturer: Yageo; Manufacturer Part Number: CC0402KRX7R7BB102; Voltage Rating: 16V; Case/Package: 0402; Supplier-1: Digikey; Supplier 1: Mouser; Manufacturer 1: Yageo; Manufacturer Part Number 1: CC0402KRX7R7BB102; RoHS: Yes; Category: Ceramic Capacitors; Stock 1: 36889; Pricing 1: 1=0.1, 10=0.01, 50=0.01, 100=0.006, 1000=0.005, 10000=0.004 (USD); Mount: Surface Mount; Case Code (Imperial): 0402; Case Code (Metric): 1005; Min Operating Temperature: -55°C; Max Operating Temperature: 125°C; Capacitance: 1nF; Tolerance: 10%; Dielectric: X7R; Packaging: Tape and Reel; Voltage Rating (DC): 16V; Package Quantity: 1; Termination: SMD/SMT; Series: CC; Construction: Flat; Length: 1mm; Width: 0.02inch; Height: 0.5mm; Thickness: 0.022inch; Depth: 0.5mm; Radiation Hardening: No; Reach SVHC Compliant: No; Lead Free: Lead Free; Halogen Free: Halogen Free; RoHS Compliant: Yes; ComponentLink1URL: https://datasheet.ciiva.com/143/mlccorderingcode-143963.pdf?src-supplier=Digi-Key; ComponentLink1Description: https://datasheet.ciiva.com/143/mlccorderingcode-143963.pdf?src-supplier=Digi-Key; ComponentLink2URL: https://datasheet.ciiva.com/143/mlccorderingcode-143964.pdf?src-supplier=Digi-Key; ComponentLink2Description: https://datasheet.ciiva.com/143/mlccorderingcode-143964.pdf?src-supplier=Digi-Key; ComponentLink3URL: https://datasheet.ciiva.com/26862/getdatasheetpartid-698313-26862635.pdf?src-supplier=Verical; ComponentLink3Description: https://datasheet.ciiva.com/26862/getdatasheetpartid-698313-26862635.pdf?src-supplier=Verical; ComponentLink4URL: https://datasheet.ciiva.com/7978/1489800-7978107.pdf?src-supplier=Element14; ComponentLink4Description: https://datasheet.ciiva.com/7978/1489800-7978107.pdf?src-supplier=Element14; ComponentLink5URL: https://datasheet.ciiva.com/143/mlccorderingcode-143962.pdf?src-supplier=Digi-Key; ComponentLink5Description: https://datasheet.ciiva.com/143/mlccorderingcode-143962.pdf?src-supplier=Digi-Key; ComponentLink6URL: https://datasheet.ciiva.com/11464/upy-gphc-x7r-6-3v-to-50v-8-11464876.pdf?src-supplier=Avnet; ComponentLink6Description: https://datasheet.ciiva.com/11464/upy-gphc-x7r-6-3v-to-50v-8-11464876.pdf?src-supplier=Avnet
footprint CAP_0402 (Capacitor)
pins: 1, 2

## CAP_1uF-10V-5%-0603
designator C?, comment 1uF  Supplier Part Number 2: 399-17699-1-ND
Cap Ceramic 1uF 10V X7R 5% SMD 0603 125°C Paper T/R; Manufacturer: Samsung Electro-Mechanics; Manufacturer Part Number: CL10A105KP8NNNC; Manufacturer 1: Samsung; Tolerance: 10%; Dielectric: X5R; Case/Package: 0603; Supplier-1: Digikey; Supplier 1: Digi-Key; Manufacturer Part Number 1: CL10A105KP8NNNC; RoHS: Yes; Category: Ceramic Capacitors; Stock 1: 2016763; Pricing 1: 1=0.1, 10=0.032, 50=0.0176, 100=0.0145, 500=0.01032, 1000=0.00811 (USD); Mount: Surface Mount; Case Code (Metric): 1608; Case Code (Imperial): 0603; Min Operating Temperature: -55°C; Max Operating Temperature: 85°C; Capacitance: 1uF; Packaging: Tape and Reel; Package Quantity: 1; Voltage Rating: 10V; Voltage: 10V; Series: CL; Construction: Flat; Length: 1.6mm; Width: 0.031inch; Height: 0.8mm; Thickness: 0.035inch; Depth: 0.8mm; Radiation Hardening: No; RoHS Compliant: Yes; ComponentLink1URL: https://datasheet.ciiva.com/15195/getdatasheetpartid-358616-15195708.pdf?src-supplier=Verical; ComponentLink1Description: https://datasheet.ciiva.com/15195/getdatasheetpartid-358616-15195708.pdf?src-supplier=Verical; ComponentLink2URL: https://datasheet.ciiva.com/16358/cl05b104kq5nnnc-16358431.pdf?src-supplier=Future+Electronics; ComponentLink2Description: https://datasheet.ciiva.com/16358/cl05b104kq5nnnc-16358431.pdf?src-supplier=Future+Electronics; Supplier 2: Digi-Key; Manufacturer 2: KEMET; Manufacturer Part Number 2: C0603X105J8RAC7867; Stock 2: 11873; Pricing 2: 1=0.44, 10=0.309, 50=0.2336, 100=0.2035, 500=0.15072, 1000=0.12811 (USD); ComponentLink3URL: https://api.kemet.com/component-edge/download/datasheet/C0603X105J8RAC7867.pdf?src-supplier=Digi-Key; ComponentLink3Description: https://api.kemet.com/component-edge/download/datasheet/C0603X105J8RAC7867.pdf?src-supplier=Digi-Key; ComponentLink4URL: https://datasheet.octopart.com/C0603X105J8RAC7867-KEMET-datasheet-158079525.pdf?src-supplier=Electro+Sonic; ComponentLink4Description: https://datasheet.octopart.com/C0603X105J8RAC7867-KEMET-datasheet-158079525.pdf?src-supplier=Electro+Sonic
footprint CAP_0603 (Capacitor)
pins: 1, 2

## CAP_1uF-10V-10%-0402
designator C?, comment 1uF
Multilayer Ceramic Capacitor, 1 uF, 10 V, ± 10%, X6S, 0402 [1005 Metric]; Manufacturer: Murata Electronics; Manufacturer Part Number: GRT155C81A105KE01D; Manufacturer 1: Murata; Voltage Rating: 10V; Case/Package: 0402; Supplier-1: Digikey; Supplier 1: Digi-Key; Manufacturer Part Number 1: GRT155C81A105KE01D; RoHS: Yes; Category: Ceramic Capacitors; Stock 1: 65969; Pricing 1: 1=0.1, 10=0.068, 50=0.0372, 100=0.0303, 500=0.02166, 1000=0.01702, 2500=0.01547, 5000=0.01423 (USD); Mount: Surface Mount; Case Code (Metric): 1005; Case Code (Imperial): 0402; Min Operating Temperature: -55°C; Max Operating Temperature: 105°C; Packaging: Cut Tape; Capacitance: 1uF; Tolerance: 10%; Dielectric: X6S; Voltage Rating (DC): 10V; Series: GRT; Length: 0.039inch; Width: 0.02inch; Thickness: 0.022inch; Ratings: AEC-Q200; RoHS Compliant: Yes; ComponentLink1URL: http://www.farnell.com/datasheets/2165911.pdf?src-supplier=Farnell; ComponentLink1Description: http://www.farnell.com/datasheets/2165911.pdf?src-supplier=Farnell; ComponentLink2URL: http://search.murata.co.jp/Ceramy/image/img/A01X/G101/ENG/GRT155C81A105KE01-01.pdf?src-supplier=Digi-Key; ComponentLink2Description: http://search.murata.co.jp/Ceramy/image/img/A01X/G101/ENG/GRT155C81A105KE01-01.pdf?src-supplier=Digi-Key; ComponentLink3URL: https://datasheet.octopart.com/GRT155C81A105KE01D-Murata-datasheet-67697698.pdf?src-supplier=Newark; ComponentLink3Description: https://datasheet.octopart.com/GRT155C81A105KE01D-Murata-datasheet-67697698.pdf?src-supplier=Newark; ComponentLink4URL: https://datasheet.octopart.com/GRT155C81A105KE01D-Murata-datasheet-165579666.pdf?src-supplier=TME; ComponentLink4Description: https://datasheet.octopart.com/GRT155C81A105KE01D-Murata-datasheet-165579666.pdf?src-supplier=TME
footprint CAP_0402 (Capacitor)
pins: 1, 2

## CAP_1uF-16V-10%-0201
designator C?, comment 1uF
Multilayer Ceramic Capacitor, 1 uF, 16 V, ± 20%, X5R, 0201 [0603 Metric]; Manufacturer: Samsung Electro-Mechanics; Manufacturer Part Number: CL03A105MO3NRNH; Manufacturer 1: Samsung; Case/Package: 0201; Supplier-1: Digikey; Supplier 1: Digi-Key; Manufacturer Part Number 1: CL03A105MO3NRNH; RoHS: Yes; Category: Ceramic Capacitors; Stock 1: 1186098; Pricing 1: 1=0.25, 10=0.17, 50=0.1018, 100=0.086, 500=0.05882, 1000=0.05204, 2500=0.04977, 5000=0.04525 (USD); ComponentLink1URL: https://datasheet.octopart.com/CL03A105MO3NRNH-Samsung-Electro-Mechanics-datasheet-136037157.pdf?src-supplier=Future+Electronics; ComponentLink1Description: https://datasheet.octopart.com/CL03A105MO3NRNH-Samsung-Electro-Mechanics-datasheet-136037157.pdf?src-supplier=Future+Electronics; ComponentLink2URL: http://www.samsungsem.com/kr/support/product-search/mlcc/CL03A105MO3NRNH.jsp?src-supplier=Digi-Key; ComponentLink2Description: http://www.samsungsem.com/kr/support/product-search/mlcc/CL03A105MO3NRNH.jsp?src-supplier=Digi-Key
footprint CAP_0201
pins: 1, 2

## CAP_1uF-16V-10%-0402
designator C?, comment 1uF
Cap, 1UF, 16V, Mlcc, 0402;; Manufacturer 1: KEMET; Manufacturer Part Number 1: C0402C105K4PAC7411; ComponentLink1URL: http://datasheet.octopart.com/0402BW105K160YT-Novacap-datasheet-136501453.pdf?src-supplier=Digi-Key; ComponentLink1Description: http://datasheet.octopart.com/0402BW105K160YT-Novacap-datasheet-136501453.pdf?src-supplier=Digi-Key; ComponentLink2URL: https://datasheet.octopart.com/0402BW105K160YT-Novacap-datasheet-136501453.pdf?src-supplier=RFMW; ComponentLink2Description: https://datasheet.octopart.com/0402BW105K160YT-Novacap-datasheet-136501453.pdf?src-supplier=RFMW; Supplier 1: Digi-Key; RoHS: Yes; Category: Ceramic Capacitors; Stock 1: 142433; Pricing 1: 1=0.11, 10=0.077, 50=0.0438, 100=0.0363, 500=0.02548, 1000=0.02109, 2500=0.01963, 5000=0.01796 (USD); ComponentLink3URL: https://datasheet.octopart.com/C0402C105K4PAC7411-KEMET-datasheet-142027389.pdf?src-supplier=Farnell; ComponentLink3Description: https://datasheet.octopart.com/C0402C105K4PAC7411-KEMET-datasheet-142027389.pdf?src-supplier=Farnell; ComponentLink4URL: https://api.kemet.com/component-edge/download/datasheet/C0402C105K4PAC7411.pdf?src-supplier=Digi-Key; ComponentLink4Description: https://api.kemet.com/component-edge/download/datasheet/C0402C105K4PAC7411.pdf?src-supplier=Digi-Key; Supplier Part Number 1: 399-C0402C105K4PAC7411CT-ND
footprint CAP_0402 (Capacitor)
pins: 1, 2

## CAP_1uF-16V-10%-0603
designator C?, comment 1uF
Multilayer Ceramic Capacitor, 1 uF, 16 V, ± 10%, X7R, 0603 [1608 Metric]; Manufacturer: Yageo; Manufacturer Part Number: CC0603KRX7R7BB105; Voltage Rating: 16V; Dissipation Factor: 5%; Case/Package: 0603; Supplier-1: Digikey; Supplier 1: Digi-Key; Manufacturer 1: Yageo; Manufacturer Part Number 1: CC0603KRX7R7BB105; RoHS: Yes; Category: Ceramic Capacitors; Stock 1: 9958482; Pricing 1: 1=0.14, 10=0.098, 50=0.0556, 100=0.0461, 500=0.03234, 1000=0.02678 (USD); Mount: Surface Mount; Number of Pins: 2; Case Code (Metric): 1608; Case Code (Imperial): 0603; Min Operating Temperature: -55°C; Max Operating Temperature: 125°C; Capacitance: 1uF; Tolerance: 10%; Dielectric: X7R; Package Quantity: 1; Packaging: Tape and Reel; Voltage Rating (DC): 16V; Termination: SMD/SMT; Voltage: 16V; Series: CC; Construction: Flat; Length: 1.6mm; Width: 0.031inch; Height: 0.8mm; Thickness: 0.035inch; Depth: 0.8mm; Radiation Hardening: No; Lead Free: Lead Free; Halogen Free: Halogen Free; RoHS Compliant: Yes; Reach SVHC Compliant: Unknown; ComponentLink1URL: https://datasheet.ciiva.com/8033/1734573-8033801.pdf?src-supplier=Element14; ComponentLink1Description: https://datasheet.ciiva.com/8033/1734573-8033801.pdf?src-supplier=Element14; ComponentLink2URL: https://datasheet.ciiva.com/8033/1734573-8033800.pdf?src-supplier=Element14; ComponentLink2Description: https://datasheet.ciiva.com/8033/1734573-8033800.pdf?src-supplier=Element14; ComponentLink3URL: https://datasheet.ciiva.com/7978/1489800-7978143.pdf?src-supplier=Element14; ComponentLink3Description: https://datasheet.ciiva.com/7978/1489800-7978143.pdf?src-supplier=Element14; ComponentLink4URL: https://datasheet.ciiva.com/28450/1489800-28450557.pdf?src-supplier=Element14; ComponentLink4Description: https://datasheet.ciiva.com/28450/1489800-28450557.pdf?src-supplier=Element14; ComponentLink5URL: https://datasheet.ciiva.com/176/mlccorderingcode-176789.pdf?src-supplier=Digi-Key; ComponentLink5Description: https://datasheet.ciiva.com/176/mlccorderingcode-176789.pdf?src-supplier=Digi-Key; ComponentLink6URL: https://datasheet.ciiva.com/176/mlccorderingcode-176788.pdf?src-supplier=Digi-Key; ComponentLink6Description: https://datasheet.ciiva.com/176/mlccorderingcode-176788.pdf?src-supplier=Digi-Key; ComponentLink7URL: https://datasheet.ciiva.com/176/mlccorderingcode-176790.pdf?src-supplier=Digi-Key; ComponentLink7Description: https://datasheet.ciiva.com/176/mlccorderingcode-176790.pdf?src-supplier=Digi-Key; ComponentLink8URL: https://datasheet.ciiva.com/5425/upy-gphc-x7r-6-3v-to-50v-8-12304-5425495.pdf?src-supplier=Mouser; ComponentLink8Description: https://datasheet.ciiva.com/5425/upy-gphc-x7r-6-3v-to-50v-8-12304-5425495.pdf?src-supplier=Mouser
footprint CAP_0603 (Capacitor)
pins: 1, 2

## CAP_1uF_16V_20%_0805
designator C?, comment 1uF
Cap, 1UF, 16V, Mlcc, 0805;; Manufacturer: KEMET; Manufacturer Part Number: C0805C105Z4VAC7210; Tolerance: 80%; Supplier 1: Mouser; RoHS: Yes; Category: Ceramic Capacitors; Stock 1: 28110; Pricing 1: 1=0.12, 10=0.079, 50=0.079, 100=0.037, 1000=0.022, 10000=0.017 (USD); Mount: Surface Mount; Case/Package: 0805; Min Operating Temperature: -30°C; Max Operating Temperature: 85°C; Series: SMD Comm Y5V; Voltage Rating: 16V; Capacitance: 1uF; RoHS Compliant: Yes; Supplier 2: Digi-Key; Manufacturer 2: KEMET; Manufacturer Part Number 2: C0805C105Z4VAC7210; Stock 2: 109336; Pricing 2: 1=0.1, 10=0.075, 50=0.0424, 100=0.0351, 500=0.0246, 1000=0.02036, 2500=0.01895, 5000=0.01734 (USD); Supplier 3: Mouser; Manufacturer 3: KEMET; Manufacturer Part Number 3: C0805C105Z4VAC7210; Stock 3: 14106; Pricing 3: 1=0.12, 10=0.079, 50=0.079, 100=0.037, 1000=0.022, 10000=0.016 (USD)
footprint CAP_0805 (Chip Capacitor, 2-Leads, Body 2.10x1.35mm, IPC Medium Density)
pins: 1, 2

## CAP_1uF_50V_10%_0805
designator C?, comment 1uF
Multilayer Ceramic Capacitor, 1 uF, 50 V, ± 10%, X7R, 0805 [2012 Metric]; Manufacturer: KEMET; Manufacturer Part Number: C0805C105K5RACTU; Voltage Rating: 50V; Supplier 1: Mouser; RoHS: Yes; Category: Ceramic Capacitors; Stock 1: 246479; Pricing 1: 1=0.33, 10=0.171, 50=0.171, 100=0.11, 1000=0.092, 10000=0.076 (USD); Mount: Surface Mount,PCB; Case/Package: 0805; Case Code (Metric): 2012; Case Code (Imperial): 0805; Dielectric Material: Ceramic; Min Operating Temperature: -55°C; Max Operating Temperature: 125°C; Packaging: Tape and Reel; Capacitance: 1uF; Tolerance: 10%; Voltage Rating (DC): 50V; Package Quantity: 1; Dielectric: X7R; Termination: SMD/SMT; Voltage: 50V; Series: C; Construction: Flat; Length: 2mm; Width: 0.049inch; Height: 1.25mm; Thickness: 0.055inch; Depth: 1.25mm; Reach SVHC Compliant: No; RoHS Compliant: Yes; ComponentLink1URL: https://datasheet.ciiva.com/7842/1732744-7842192.pdf?src-supplier=Element14; ComponentLink1Description: https://datasheet.ciiva.com/7842/1732744-7842192.pdf?src-supplier=Element14; ComponentLink2URL: https://datasheet.ciiva.com/22700/1851736-22700523.pdf?src-supplier=Element14; ComponentLink2Description: https://datasheet.ciiva.com/22700/1851736-22700523.pdf?src-supplier=Element14; ComponentLink3URL: https://datasheet.ciiva.com/5408/kem-c1002-x7r-smd-5408569.pdf?src-supplier=Mouser; ComponentLink3Description: https://datasheet.ciiva.com/5408/kem-c1002-x7r-smd-5408569.pdf?src-supplier=Mouser; Supplier 2: Digi-Key; Manufacturer 2: KEMET; Manufacturer Part Number 2: C0805C105K5RACTU; Stock 2: 167514; Pricing 2: 1=0.33, 10=0.231, 50=0.162, 100=0.1388, 500=0.10412, 1000=0.08792 (USD)
footprint CAP_0805 (Chip Capacitor, 2-Leads, Body 2.10x1.35mm, IPC Medium Density)
pins: 1, 2

## CAP_2.2uF-10V-10%-0402
designator C?, comment 2.2uF
Multilayer Ceramic Capacitors (High dielectric type), 10V, 2.2 uF, ± 10 %, 0402, X5R, RoHS; Manufacturer 1: Taiyo Yuden; Manufacturer Part Number 1: LMK105BJ225KV-F; ComponentLink1URL: http://www.farnell.com/datasheets/1872202.pdf?src-supplier=Farnell; ComponentLink1Description: http://www.farnell.com/datasheets/1872202.pdf?src-supplier=Farnell; ComponentLink2URL: http://www.farnell.com/datasheets/2047915.pdf?src-supplier=Farnell; ComponentLink2Description: http://www.farnell.com/datasheets/2047915.pdf?src-supplier=Farnell; ComponentLink3URL: http://www.mouser.com/ds/2/281/c02e-2905.pdf?src-supplier=Mouser; ComponentLink3Description: http://www.mouser.com/ds/2/281/c02e-2905.pdf?src-supplier=Mouser; ComponentLink4URL: http://www.farnell.com/datasheets/1872202.pdf?src-supplier=Newark; ComponentLink4Description: http://www.farnell.com/datasheets/1872202.pdf?src-supplier=Newark; ComponentLink5URL: http://www.farnell.com/datasheets/2047915.pdf?src-supplier=Element14; ComponentLink5Description: http://www.farnell.com/datasheets/2047915.pdf?src-supplier=Element14; ComponentLink6URL: https://datasheet.octopart.com/GRM155R61A225KE95D-Murata-datasheet-62317105.pdf?src-supplier=Element14; ComponentLink6Description: https://datasheet.octopart.com/GRM155R61A225KE95D-Murata-datasheet-62317105.pdf?src-supplier=Element14; ComponentLink7URL: http://www.farnell.com/datasheets/1872202.pdf?src-supplier=Element14; ComponentLink7Description: http://www.farnell.com/datasheets/1872202.pdf?src-supplier=Element14; ComponentLink8URL: http://www.farnell.com/datasheets/2047915.pdf?src-supplier=Newark; ComponentLink8Description: http://www.farnell.com/datasheets/2047915.pdf?src-supplier=Newark; ComponentLink9URL: https://search.murata.co.jp/Ceramy/image/img/A01X/G101/ENG/GRM155R61A225KE95-01.pdf?src-supplier=Digi-Key; ComponentLink9Description: https://search.murata.co.jp/Ceramy/image/img/A01X/G101/ENG/GRM155R61A225KE95-01.pdf?src-supplier=Digi-Key; ComponentLink10URL: http://psearch.en.murata.com/capacitor/product/GRM155R61A225KE95%23.pdf?src-supplier=Avnet; ComponentLink10Description: http://psearch.en.murata.com/capacitor/product/GRM155R61A225KE95%23.pdf?src-supplier=Avnet; Supplier 1: Digi-Key; RoHS: Yes; Category: Ceramic Capacitors; Stock 1: 2029513; Pricing 1: 1=0.1, 10=0.054, 50=0.0296, 100=0.0243, 500=0.01732, 1000=0.01361, 2500=0.01237, 5000=0.01138 (USD); ComponentLink11URL: http://www.farnell.com/datasheets/2819851.pdf?src-supplier=Farnell; ComponentLink11Description: http://www.farnell.com/datasheets/2819851.pdf?src-supplier=Farnell; ComponentLink12URL: http://ds.yuden.co.jp/TYCOMPAS/ut/detail.do?productNo=LMK105BJ225KV-F&fileName=LMK105BJ225KV-F_SS&mode=specSheetDownload&src-supplier=Digi-Key; ComponentLink12Description: http://ds.yuden.co.jp/TYCOMPAS/ut/detail.do?productNo=LMK105BJ225KV-F&fileName=LMK105BJ225KV-F_SS&mode=specSheetDownload&src-supplier=Digi-Key; ComponentLink13URL: http://datasheet.octopart.com/LMK105BJ225KV-F-Taiyo-Yuden-datasheet-140424376.pdf?src-supplier=Digi-Key; ComponentLink13Description: http://datasheet.octopart.com/LMK105BJ225KV-F-Taiyo-Yuden-datasheet-140424376.pdf?src-supplier=Digi-Key; ComponentLink14URL: http://datasheet.octopart.com/LMK105BJ225KV-F-Taiyo-Yuden-datasheet-140424376.pdf?src-supplier=Mouser; ComponentLink14Description: http://datasheet.octopart.com/LMK105BJ225KV-F-Taiyo-Yuden-datasheet-140424376.pdf?src-supplier=Mouser; ComponentLink15URL: http://datasheet.octopart.com/LMK105BJ225KV-F-Taiyo-Yuden-datasheet-140424376.pdf?src-supplier=Avnet; ComponentLink15Description: http://datasheet.octopart.com/LMK105BJ225KV-F-Taiyo-Yuden-datasheet-140424376.pdf?src-supplier=Avnet; ComponentLink16URL: https://datasheet.octopart.com/LMK105BJ225KV-F-Taiyo-Yuden-datasheet-104422197.pdf?src-supplier=Future+Electronics; ComponentLink16Description: https://datasheet.octopart.com/LMK105BJ225KV-F-Taiyo-Yuden-datasheet-104422197.pdf?src-supplier=Future+Electronics; ComponentLink17URL: http://datasheet.octopart.com/LMK105BJ225KV-F-Taiyo-Yuden-datasheet-140424376.pdf?src-supplier=Rs; ComponentLink17Description: http://datasheet.octopart.com/LMK105BJ225KV-F-Taiyo-Yuden-datasheet-140424376.pdf?src-supplier=Rs; ComponentLink18URL: http://datasheet.octopart.com/LMK105BJ225KV-F-Taiyo-Yuden-datasheet-140424376.pdf?src-supplier=Newark; ComponentLink18Description: http://datasheet.octopart.com/LMK105BJ225KV-F-Taiyo-Yuden-datasheet-140424376.pdf?src-supplier=Newark; ComponentLink19URL: http://www.farnell.com/datasheets/2819851.pdf?src-supplier=Newark; ComponentLink19Description: http://www.farnell.com/datasheets/2819851.pdf?src-supplier=Newark; ComponentLink20URL: http://datasheet.octopart.com/LMK105BJ225KV-F-Taiyo-Yuden-datasheet-140424376.pdf?src-supplier=Onlinecomponents.com; ComponentLink20Description: http://datasheet.octopart.com/LMK105BJ225KV-F-Taiyo-Yuden-datasheet-140424376.pdf?src-supplier=Onlinecomponents.com; ComponentLink21URL: http://datasheet.octopart.com/LMK105BJ225KV-F-Taiyo-Yuden-datasheet-140424376.pdf?src-supplier=Quest; ComponentLink21Description: http://datasheet.octopart.com/LMK105BJ225KV-F-Taiyo-Yuden-datasheet-140424376.pdf?src-supplier=Quest; ComponentLink22URL: http://datasheet.octopart.com/LMK105BJ225KV-F-Taiyo-Yuden-datasheet-140424376.pdf?src-supplier=Electro+Sonic; ComponentLink22Description: http://datasheet.octopart.com/LMK105BJ225KV-F-Taiyo-Yuden-datasheet-140424376.pdf?src-supplier=Electro+Sonic; ComponentLink23URL: http://datasheet.octopart.com/LMK105BJ225KV-F-Taiyo-Yuden-datasheet-140424376.pdf?src-supplier=NAC+Semi; ComponentLink23Description: http://datasheet.octopart.com/LMK105BJ225KV-F-Taiyo-Yuden-datasheet-140424376.pdf?src-supplier=NAC+Semi; ComponentLink24URL: https://datasheet.octopart.com/LMK105BJ225KV-F-Taiyo-Yuden-datasheet-140424376.pdf?src-supplier=Master+Electronics; ComponentLink24Description: https://datasheet.octopart.com/LMK105BJ225KV-F-Taiyo-Yuden-datasheet-140424376.pdf?src-supplier=Master+Electronics; Supplier Part Number 1: 587-6016-1-ND
footprint CAP_0402 (Capacitor)
pins: 1, 2